# Altium footprint library SignalCommunications.PCBLIB: 466 footprints (part 16 of 30)
Each footprint in its own frame and in the unit in brackets; x right, y up, seen from the top. Pads: shape width x height; smd on the part's side, far side on the other; paste and mask are expansions set on the pad; w line width, h text height; cw(c..) or ccw(c..) is an arc to the next point about the centre after c.
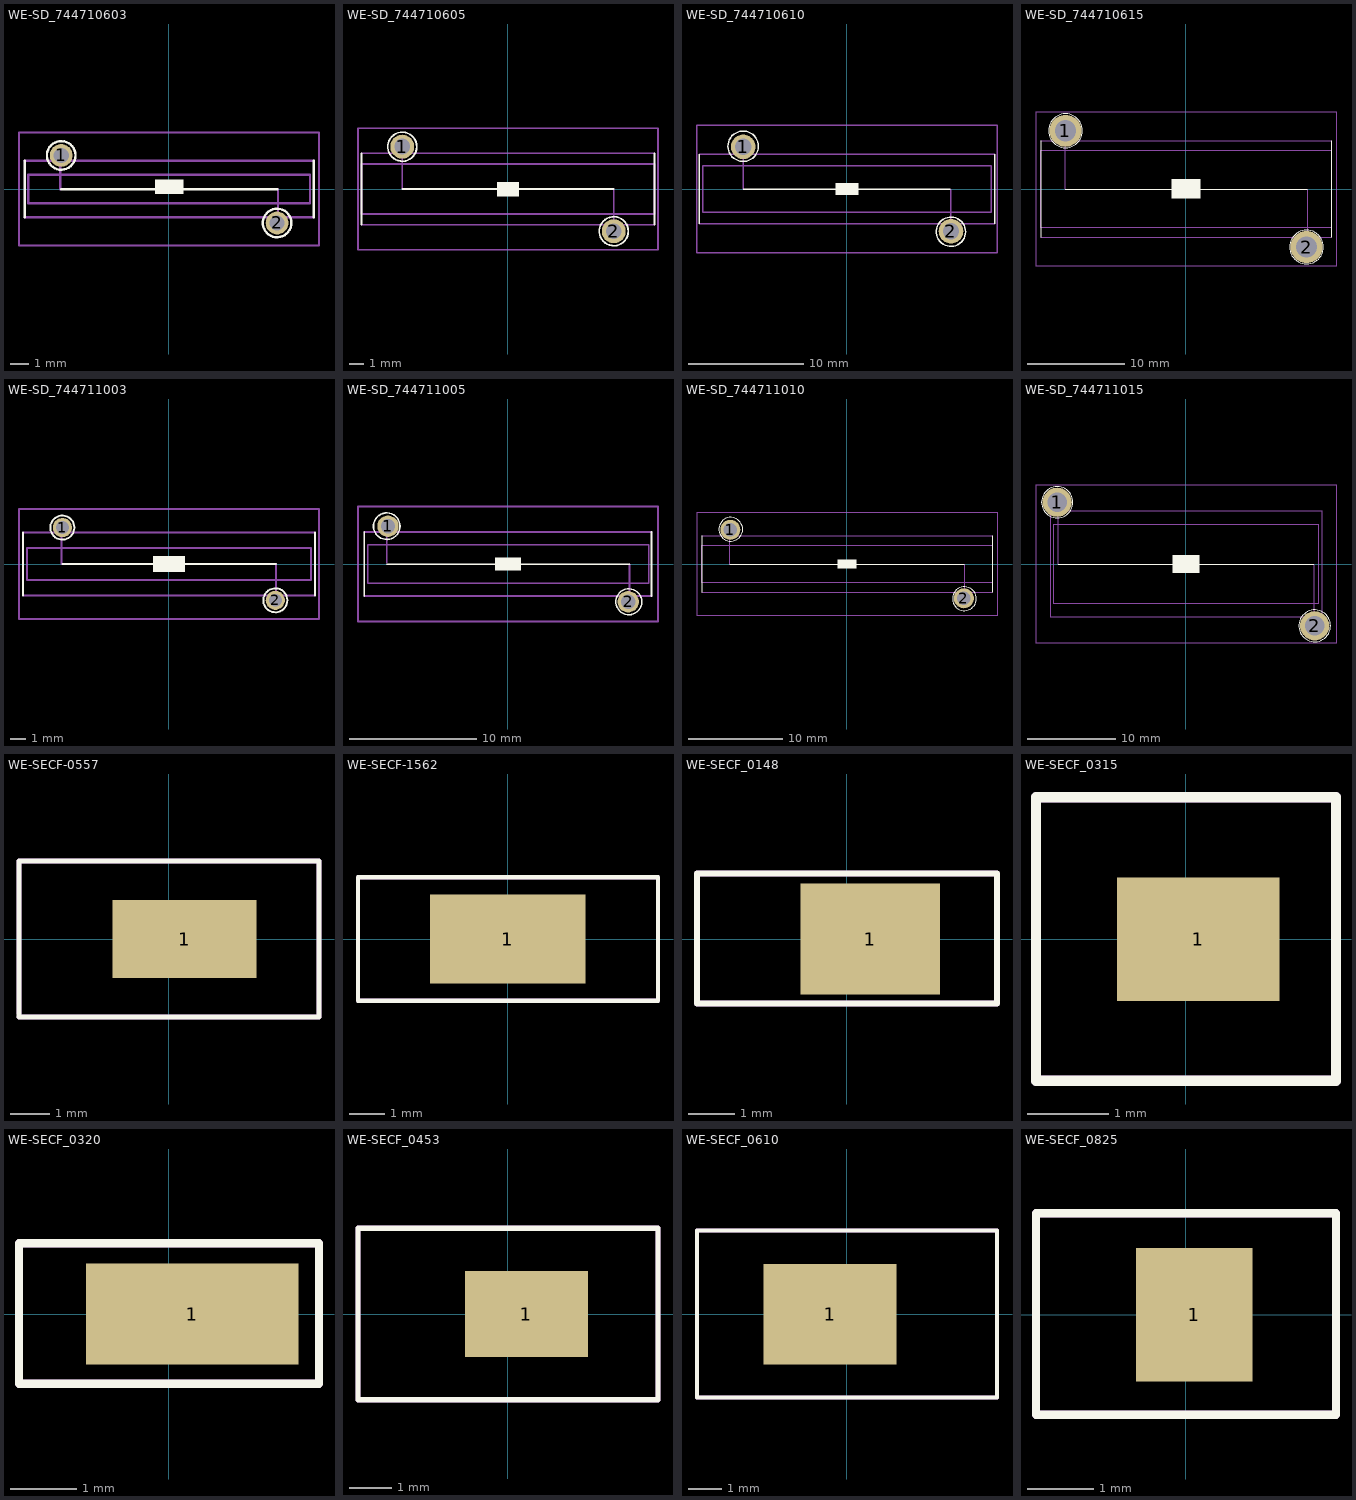
[diagram p15: the footprints below, top view; thin cyan lines are the x and y axes]

## WE-SD_744710603 [mil]
pads (2):
  round 48 hole 32: 1(-226.38,71) 2(227,-70.87)
Top Overlay:
  circle w5: c-226.38,71 r30
  circle w5: c227,-70.87 r30
  rectangle: -29.53,-9.84 30,20
  lines w5: -303.15,-59.06 -303.15,60 ; -226.38,0 227,0 ; 304,-59.06 304,60
Mechanical 10:
  lines w5: -295.28,-29.53 296,-29.53 296,30 -295.28,30 -295.28,-29.53
Mechanical 16:
  lines w5: -303.15,-59.06 304,-59.06 ; -303.15,60 304,60 ; -228.35,0 -228.35,67 ; 229,-70.87 229,0
Mechanical 27:
  lines w5: -314.96,-118.11 315,-118.11 315,119 -314.96,119 -314.96,-118.11

## WE-SD_744710605 [mil]
pads (2):
  round 66 hole 44: 1(-291.34,117) 2(292,-116.14)
Top Overlay:
  circle w5: c-291.34,117 r40
  circle w5: c292,-116.14 r40
  rectangle: -29.53,-19.68 30,20
  lines w5: -403.54,-98.43 -403.54,99 ; -291.34,0 292,0 ; 404,-98.43 404,99
Mechanical 10:
  lines w5: -403.54,-68.9 404,-68.9 404,69 -403.54,69 -403.54,-68.9
Mechanical 16:
  lines w5: -403.54,-98.43 404,-98.43 ; -403.54,99 404,99 ; -291.34,0 -291.34,115 ; 292,-114.17 292,0
Mechanical 27:
  lines w5: -413.39,-167.32 414,-167.32 414,168 -413.39,168 -413.39,-167.32

## WE-SD_744710610 [mil]
pads (2):
  round 84 hole 56: 1(-354.33,144) 2(355,-143.7)
Top Overlay:
  circle w5: c-354.33,146 r52
  circle w5: c355,-145.67 r50
  rectangle: -39.37,-19.68 40,20
  lines w5: -503.94,-118.11 -503.94,119 ; -354.33,0 353,0 ; 504,-118.11 504,119
Mechanical 10:
  lines w5: -492.13,-78.74 493,-78.74 493,79 -492.13,79 -492.13,-78.74
Mechanical 16:
  lines w5: -503.94,-118.11 504,-118.11 ; -503.94,119 504,119 ; -354.33,0 -354.33,142 ; 355,-145.67 355,0
Mechanical 27:
  lines w5: -511.81,-216.54 512,-216.54 512,217 -511.81,217 -511.81,-216.54

## WE-SD_744710615 [mil]
pads (2):
  round 130.5 hole 87: 1(-490.16,237) 2(491,-236.22)
Top Overlay:
  circle w5: c-490.16,237 r69
  circle w5: c491,-236.22 r69
  rectangle: -59.06,-39.37 60,40
  lines w5: -590.55,-196.85 -590.55,197 ; -492.13,0 493,0 ; 591,-196.85 591,197
Mechanical 10:
  lines w5: -590.55,-157.48 591,-157.48 591,158 -590.55,158 -590.55,-157.48
Mechanical 16:
  lines w5: -590.55,-196.85 591,-196.85 ; -590.55,197 591,197 ; -492.13,0 -492.13,237 ; 493,-240.16 493,0
Mechanical 27:
  lines w5: -610.24,-314.96 611,-314.96 611,315 -610.24,315 -610.24,-314.96

## WE-SD_744711003 [mil]
pads (2):
  round 48 hole 32: 1(-265.75,91) 2(266,-90.55)
Top Overlay:
  circle w5: c-265.75,91 r30
  circle w5: c266,-90.55 r30
  rectangle: -39.37,-19.68 40,20
  lines w5: -364.17,-78.74 -364.17,79 ; -265.75,0 266,0 ; 264,0 268,0 ; 365,-78.74 365,79
Mechanical 10:
  lines w5: -354.33,-39.37 355,-39.37 355,40 -354.33,40 -354.33,-39.37
Mechanical 16:
  lines w5: -364.17,-78.74 365,-78.74 ; -364.17,79 365,79 ; -267.72,87 -267.72,0 -263.78,0 ; 268,-90.55 268,0
Mechanical 27:
  lines w5: -374.02,-137.8 375,-137.8 375,138 -374.02,138 -374.02,-137.8

## WE-SD_744711005 [mil]
pads (2):
  round 66 hole 44: 1(-370.08,117) 2(371,-116.14)
Top Overlay:
  circle w5: c-374.02,117 r41
  circle w5: c373,-116.14 r40
  rectangle: -39.37,-19.68 40,20
  lines w5: -442.91,-98.43 -442.91,99 ; -374.02,0 375,0 ; 443,-98.43 443,99
Mechanical 10:
  lines w5: -433.07,-59.06 434,-59.06 434,60 -433.07,60 -433.07,-59.06
Mechanical 16:
  lines w5: -442.91,-98.43 443,-98.43 ; -442.91,99 443,99 ; -374.02,4 -374.02,115 ; 375,-114.17 375,0
Mechanical 27:
  lines w5: -462.6,-177.17 463,-177.17 463,178 -462.6,178 -462.6,-177.17

## WE-SD_744711010 [mil]
pads (2):
  round 84 hole 56: 1(-490.16,144) 2(491,-143.7)
Top Overlay:
  circle w5: c-488.19,146 r50
  circle w5: c493,-145.67 r50
  rectangle: -39.37,-19.68 40,20
  lines w5: -610.24,-118.11 -610.24,119 ; -492.13,0 493,0 ; 611,-118.11 611,119
Mechanical 10:
  lines w5: -610.24,-78.74 611,-78.74 611,79 -610.24,79 -610.24,-78.74
Mechanical 16:
  lines w5: -610.24,-118.11 611,-118.11 ; -610.24,119 611,119 ; -492.13,0 -492.13,138 ; 493,-141.73 493,0
Mechanical 27:
  lines w5: -629.92,-216.54 630,-216.54 630,217 -629.92,217 -629.92,-216.54

## WE-SD_744711015 [mil]
pads (2):
  round 130.5 hole 87: 1(-574.8,276) 2(575,-275.59)
Top Overlay:
  circle w5: c575,-275.59 r71
  circle w5: c-574.8,276 r70
  rectangle: -59.06,-39.37 60,40
  lines w5: -570.87,0 571,0
Mechanical 10:
  lines w5: -590.55,-177.17 591,-177.17 591,178 -590.55,178 -590.55,-177.17
Mechanical 16:
  lines w5: -570.87,0 -570.87,276 ; 571,-275.59 571,0 ; -606.3,-236.22 607,-236.22 607,237 -606.3,237 -606.3,-236.22
Mechanical 27:
  lines w5: -669.29,-354.33 670,-354.33 670,355 -669.29,355 -669.29,-354.33

## WE-SECF-0557 [mil]
pads (1):
  rect 146x79 smd: 1(16,0)
Top Overlay:
  lines w5: -151.57,-78.74 152,-78.74 152,79 -151.57,79 -151.57,-75 -151.57,-78.74
Mechanical 16:
  lines w5: -151.57,-78.74 152,-78.74 152,79 -151.57,79 -151.57,-75

## WE-SECF-1562 [mil]
pads (1):
  rect 174x99 smd: 1(0,0)
Top Overlay:
  lines w5: -167.32,-68.9 168,-68.9 168,69 -167.32,69 -167.32,-68.9
Mechanical 16:
  lines w5: -167.32,-68.9 168,-68.9 168,69 -167.32,69 -167.32,-68.9

## WE-SECF_0148 [mil]
pads (1):
  rect 119x95 smd: 1(20,0)
Top Overlay:
  lines w5: -127.95,-55.12 128,-55.12 128,56 -127.95,56 -127.95,-55.12
Mechanical 16:
  lines w5: -127.95,-55.12 128,-55.12 128,56 -127.95,56 -127.95,-55.12

## WE-SECF_0315 [mil]
pads (1):
  rect 79x60 smd: 1(6,0)
Top Overlay:
  lines w5: -72.83,-68.9 73,-68.9 73,69 -72.83,69 -72.83,-68.9
Mechanical 16:
  lines w5: -72.83,-68.9 73,-68.9 73,69 -72.83,69 -72.83,-68.9

## WE-SECF_0320 [mil]
pads (1):
  rect 126x60 smd: 1(14,0)
Top Overlay:
  lines w5: -88.58,-41.34 89,-41.34 89,42 -88.58,42 -88.58,-41.34
Mechanical 16:
  lines w5: -88.58,-41.34 89,-41.34 89,42 -88.58,42 -88.58,-41.34

## WE-SECF_0453 [mil]
pads (1):
  rect 113x79 smd: 1(17,0)
Top Overlay:
  lines w5: -137.8,-78.74 138,-78.74 138,79 -137.8,79 -137.8,-78.74
Mechanical 16:
  lines w5: -137.8,-78.74 138,-78.74 138,79 -137.8,79 -137.8,-78.74

## WE-SECF_0610 [mil]
pads (1):
  rect 158x119 smd: 1(-19.68,0)
Top Overlay:
  lines w5: -177.17,-98.43 178,-98.43 178,99 -177.17,99 -177.17,-98.43
Mechanical 16:
  lines w5: -177.17,-98.43 178,-98.43 178,99 -177.17,99 -177.17,-98.43

## WE-SECF_0825 [mil]
pads (1):
  rect 69x79 smd: 1(5,0)
Top Overlay:
  lines w5: -88.58,-59.06 89,-59.06 89,60 -88.58,60 -88.58,-59.06
Mechanical 16:
  lines w5: -88.58,-59.06 89,-59.06 89,60 -88.58,60 -88.58,-59.06